# EAGLE library part 61201421721 (library Wuerth_Elektronik_eiCan_05_Box_Header_IDC_Connectors_1_2)
WR-BHD 2.54mm Male Angled Box Header, 14 Pins
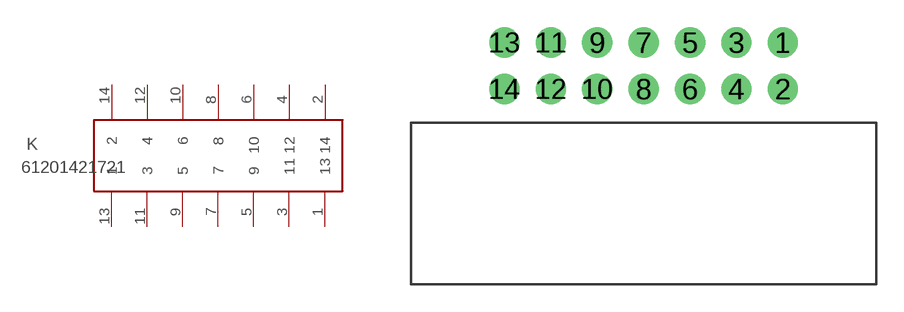
[diagram p92: symbol with the pads of 61201421721; footprint 61201421721]

Designator prefix K

## 61201421721  [61201421721]
1  13  pas
2  14  pas
3  11  pas
4  12  pas
5  9  pas
6  10  pas
7  7  pas
8  8  pas
9  5  pas
10  6  pas
11  3  pas
12  4  pas
13  1  pas
14  2  pas

## Footprint 61201421721 (pad centres in mm)
WR-BHD 2.54mm Male Angled Box Header, 14 Pins
drill 1.1: 1 2.54,1.27; 2 2.54,-1.27; 3 0,1.27; 4 0,-1.27; 5 -2.54,1.27; 6 -2.54,-1.27; 7 -5.08,1.27; 8 -5.08,-1.27; 9 -7.62,1.27; 10 -7.62,-1.27; 11 -10.16,1.27; 12 -10.16,-1.27; 13 -12.7,1.27; 14 -12.7,-1.27